# Altium footprint library TRANS_CSD25310Q2T.PcbLib: 1 footprints
Each footprint in its own frame and in the unit in brackets; x right, y up, seen from the top. Pads: shape width x height; smd on the part's side, far side on the other; paste and mask are expansions set on the pad; w line width, h text height; cw(c..) or ccw(c..) is an arc to the next point about the centre after c.
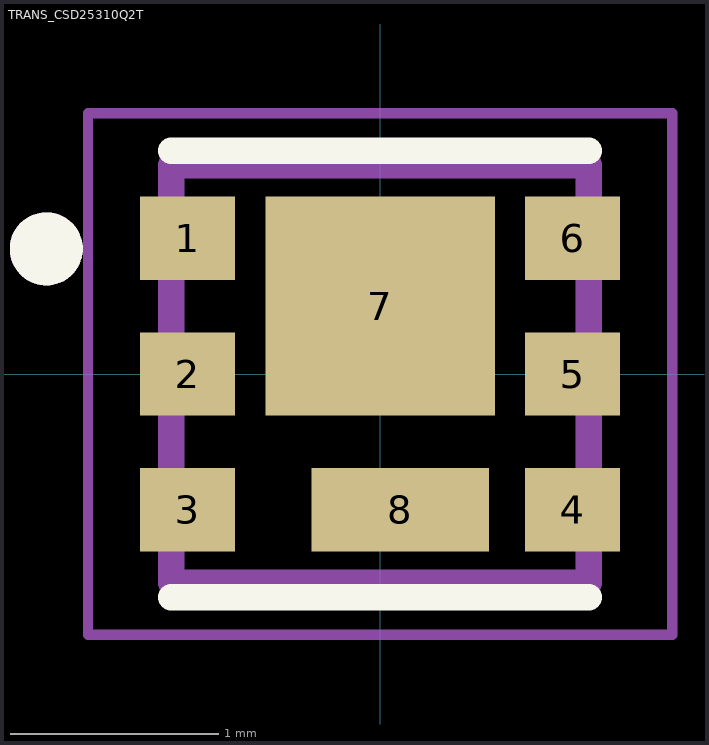
[diagram p0: the footprint, top view; thin cyan lines are the x and y axes]

## TRANS_CSD25310Q2T [mm]
pads (8):
  rect 0.455x0.4 smd paste-1: 1(-0.923,0.65) 2(-0.923,0) 3(-0.923,-0.65) 4(0.923,-0.65) 5(0.923,0) 6(0.923,0.65)
  rect 1.1x1.05 smd paste-0.05: 7(0,0.325)
  rect 0.85x0.4 smd paste-0.275: 8(0.096,-0.65)
Top Overlay:
  circle w0.25: c-1.6,0.6 r0.05
  lines w0.127: -1,-1.07 1,-1.07 ; -1,1.07 1,1.07
Top Paste:
  region: 1.092,-0.15 0.753,-0.15 0.753,0.15 1.092,0.15
  region: 1.092,0.5 0.753,0.5 0.753,0.8 1.092,0.8
  region: 1.092,-0.8 0.753,-0.8 0.753,-0.5 1.092,-0.5
  region: -0.753,0.5 -1.092,0.5 -1.092,0.8 -0.753,0.8
  region: -0.753,-0.15 -1.092,-0.15 -1.092,0.15 -0.753,0.15
  region: -0.753,-0.8 -1.092,-0.8 -1.092,-0.5 -0.753,-0.5
Mechanical 13:
  circle w0.25: c-1.6,0.6 r0.05
  lines w0.127: -1,-1 1,-1 1,1 -1,1 -1,-1
Mechanical 15:
  lines w0.05: -1.4,-1.25 1.4,-1.25 1.4,1.25 -1.4,1.25 -1.4,-1.25
3D body "step_temp.STEP": height 0.8, standoff 0, extent -1,-1 1,1